# Altium footprint library DFN-10-4.1X2.0.PcbLib: 1 footprints
Each footprint in its own frame and in the unit in brackets; x right, y up, seen from the top. Pads: shape width x height; smd on the part's side, far side on the other; paste and mask are expansions set on the pad; w line width, h text height; cw(c..) or ccw(c..) is an arc to the next point about the centre after c.
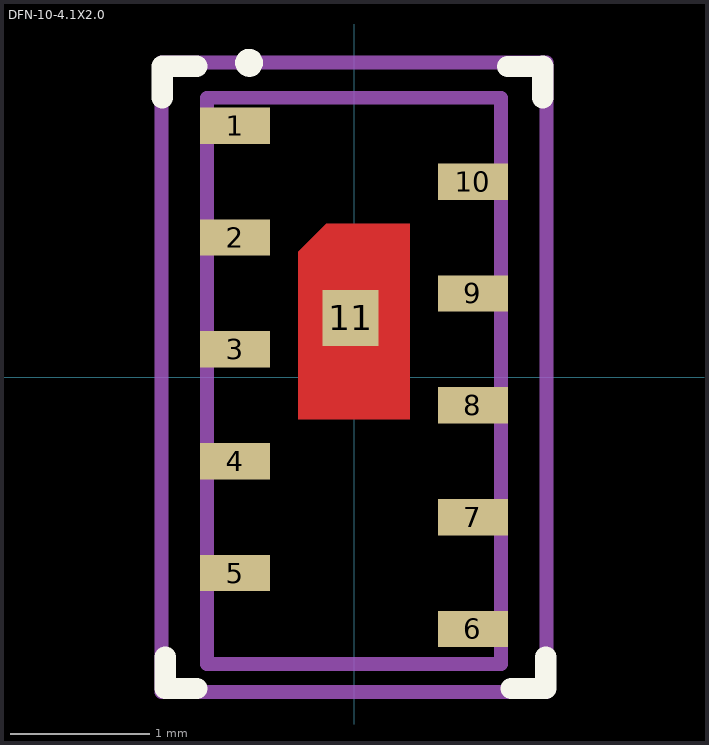
[diagram p0: the footprint, top view; thin cyan lines are the x and y axes]

## DFN-10-4.1X2.0 [mm] "QFN, 24-Leads, Body 4.10x2.00mm, Pitch 0.80mm, Body4.1X2mm  , IPC High0.5mm Density"
height 0.5
pads (11):
  rect 0.5x0.26 smd: 1(-0.85,1.8) 2(-0.85,1) 3(-0.85,0.2) 4(-0.85,-0.6) 5(-0.85,-1.4) 6(0.85,-1.8) 7(0.85,-1) 8(0.85,-0.2) 9(0.85,0.6) 10(0.85,1.4)
  rect 0.4x0.4 smd: 11(-0.025,0.425)
Top Layer:
  region: -0.4,-0.3 0.4,-0.3 0.4,1.1 -0.2,1.1 -0.4,0.9
Top Overlay:
  circle w0.1: c-0.75,2.25 r0.05
  lines w0.152: -1.371,2 -1.371,2.226 -1.125,2.226 ; -1.351,-2 -1.351,-2.226 -1.125,-2.226 ; 1.1,2.224 1.346,2.224 ; 1.125,-2.226 1.371,-2.226 1.371,-2 ; 1.351,2 1.351,2.226
Mechanical 13:
  lines w0.1: -1.05,-2.05 -1.05,2 1.05,2 1.05,-2.05 -1.05,-2.05
Mechanical 15:
  lines w0.1: -1.377,-2.252 -1.377,2.252 1.377,2.252 1.377,-2.252 -1.377,-2.252
3D body: height 0.53, standoff -0.02, extent -1.05,-2.05 1.05,2.05